# Altium schematic symbol library 二极管.SCHLIB: 1 symbol
Pins are listed as number, name and electrical type; pins without a type are passive.

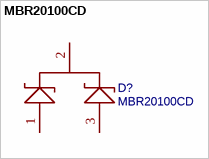
[diagram p0: symbol MBR20100CD]

## MBR20100CD
designator D?
BOM_Manufacturer: AnBon; Contributor: LCSC; BOM_Supplier: LCSC; BOM_Supplier Part: C397636; BOM_Manufacturer Part: MBR20100CD; spicePre: D; spiceSymbolName: MBR20100CD
footprint TO-252AB_L6.5-W6.0-P4.50-LS11.6-BR
pins: 1 A1, 2 C, 3 A2